# Altium integrated library Linear Technology Charge_Pump.IntLib: 599 symbols (part 16 of 29)
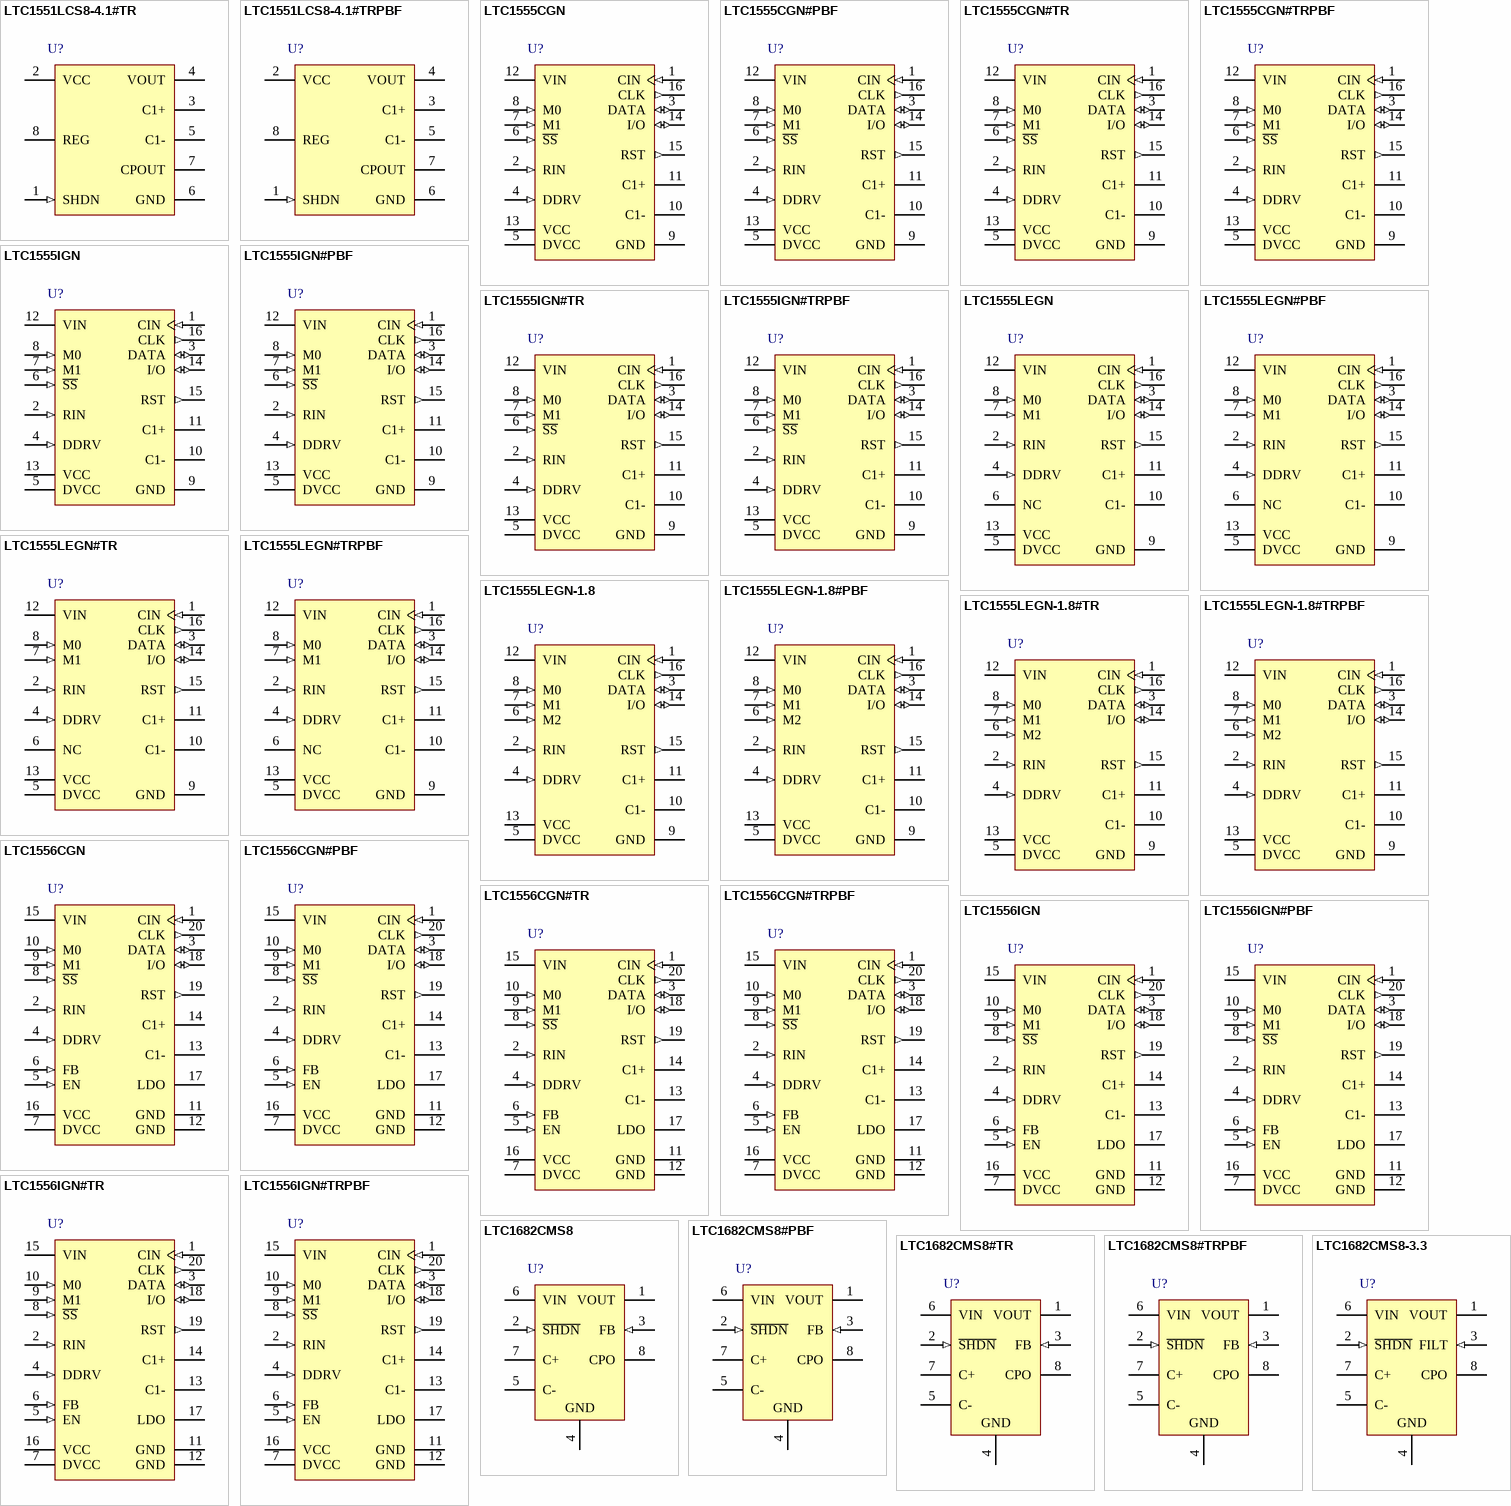
[diagram p31: symbols LTC1551LCS8-4.1#TR to LTC1682CMS8-3.3]

## LTC1555IGN#TRPBF
designator U?
SIM Power Supply and Level Translator, 2.7 to 10 V Vin, 5 V Vout, 16-pin SOP (GN-16), -40 to 85 degC, Pb-Free, Tape and Reel; Manufacturer: Linear Technology; PartNumber: LTC1555IGN#TRPBF; Frequency(kHz): 650; Isupply(mA): 0.06; Max Iout(mA): 20; Vin Max(V): 10; Vin Min(V): 2.7; Voutput: 5V; PackageVersion: Rev. B, 03/2012; PackageReference: GN-16; PackageDescription: 16-Pin Plastic SSOP, Body 4.9 x 3.9 mm, Pitch 0.635 mm; Supplier 1: Digi-Key; Supplier Part Number 1: LTC1555IGN#TRPBF-ND; Packing: Tape and Reel; RoHS: TRUE; Mounting Technology: Surface Mount; ComponentLink1Description: Manufacturer URL; ComponentLink1URL: http://www.linear.com/; ComponentLink2Description: Datasheet; ComponentLink2URL: http://cds.linear.com/docs/en/datasheet/15556f.pdf; ComponentLink3Description: Package Specification; ComponentLink3URL: http://cds.linear.com/docs/en/packaging/05081641_B_GN16.pdf
footprint LT-GN-16_N (SOP, 16-Leads, Body 5x4mm, Pitch 0.635mm, IPC Medium Density)
footprint LT-GN-16_L (SOP, 16-Leads, Body 5x4mm, Pitch 0.635mm, IPC High Density)
footprint LT-GN-16_M (SOP, 16-Leads, Body 5x4mm, Pitch 0.635mm, IPC Low Density)
pins: 1 CIN (in) "Clock Input Pin from Controller.", 2 RIN (in) "Reset Input Pin from Controller.", 3 DATA (io) "Controller Side Data Input/Output Pin. Can be used for single pin bidirectional data transfer between the controller and the SIM card as long as the controller data pin is open drain. The controller output must be able to (See Datasheet)", 4 DDRV (in) "Optional Data Input Pin for Sending Data to the SIM card. When not needed, the DDRV pin should be left floating or tied to DVCC (an internal 1mA current source will pull the DDRV pin up to DVCC if left floating).", 5 DVCC (power) "Supply Voltage for Controller Side Digital I/O Pins. May be between 1.8V and 5.5V (typically 3V).", 6 ~{SS} (in) "Soft Start Enable Pin. A logic low will enable the charge pump inrush current limiting feature. A logic high will disable the soft start feature and allow VCC to be ramped as quickly as possible upon start-up and coming out (See Datasheet)", 7 M1 (in) "Mode Control Bit 1 (see Truth Table).", 8 M0 (in) "Mode Control Bit 0 (see Truth Table).This table defines the various operating modes that maybe obtained via the M0 and M1 mode control pins", 9 GND (power) "Ground for Both the SIM and the Controller. Should be connected to the SIM GND contact as well as to the VIN/Controller GND. Proper grounding and supply bypassing is required to meet 10kV ESD specifications.", 10 C1- "Charge Pump Flying Capacitor Negative Input.", 11 C1+ "Charge Pump Flying Capacitor Positive Input.", 12 VIN (power) "Charge Pump Input Voltage Pin. Input voltage range is 2.7V to 10V. Connect a 10uF low ESR input bypass capacitor close to the VIN pin.", 13 VCC (power) "SIM Card VCC Output. This pin should be connected to the SIM VCC contact. The VCC output voltage is determined by the M0 and M1 pins (see Truth Table). VCC is discharged to GND during shutdown (M0, M1 = 0V). A 10uF low ESR (See Datasheet)", 14 I/O (io) "SIM Side I/O Pin. The pin is an open drain output with a nominal pull-up resistance of 10k and should be connected to the SIM I/O contact. The SIM card must sink up to 1mA max when driving the I/O pin low due to the internal (See Datasheet)", 15 RST (out) "Level Shifted Reset Output Pin. Should be connected to the SIM RST contact.", 16 CLK (out) "Level Shifted Clock Output Pin. Should be connected to the SIM CLK contact. Careful trace routing is recommended due to fast rise and fall edge speeds."

## LTC1555LEGN
designator U?
SIM Power Supply and Level Translator, 2.6 to 6 V Vin, 3 / 5 V Vout, 16-pin SOP (GN-16), -40 to 85 degC; Manufacturer: Linear Technology; PartNumber: LTC1555LEGN; Frequency(kHz): 1000; Isupply(mA): 0.035; Max Iout(mA): 20; Vin Max(V): 6; Vin Min(V): 2.6; Voutput: 3V, 5V; PackageVersion: Rev. B, 03/2012; PackageReference: GN-16; PackageDescription: 16-Pin Plastic SSOP, Body 4.9 x 3.9 mm, Pitch 0.635 mm; Supplier 1: Digi-Key; Supplier Part Number 1: LTC1555LEGN-ND; RoHS: FALSE; Mounting Technology: Surface Mount; ComponentLink1Description: Manufacturer URL; ComponentLink1URL: http://www.linear.com/; ComponentLink2Description: Datasheet; ComponentLink2URL: http://cds.linear.com/docs/en/datasheet/1555lf.pdf; ComponentLink3Description: Package Specification; ComponentLink3URL: http://cds.linear.com/docs/en/packaging/05081641_B_GN16.pdf
footprint LT-GN-16_N (SOP, 16-Leads, Body 5x4mm, Pitch 0.635mm, IPC Medium Density)
footprint LT-GN-16_L (SOP, 16-Leads, Body 5x4mm, Pitch 0.635mm, IPC High Density)
footprint LT-GN-16_M (SOP, 16-Leads, Body 5x4mm, Pitch 0.635mm, IPC Low Density)
pins: 1 CIN (in) "Clock Input Pin from Controller.", 2 RIN (in) "Reset Input Pin from Controller.", 3 DATA (io) "Controller Side Data Input/Output Pin. Can be used for single pin bidirectional data transfer between the controller and the SIM card as long as the controller data pin is open drain. The controller output must be able to (See Datasheet)", 4 DDRV (in) "Optional Data Input Pin for Sending Data to the SIM card. When not needed, the DDRV pin should be left floating or tied to DVCC (an internal 1uA current source will pull the DDRV pin up to DVCC if left floating).", 5 DVCC (power) "Supply Voltage for Controller Side Digital Input/Output Pins (typically 3V). May be between 1.425V and 4.4V. The DVCC supply may be powered down in shutdown for further reduction in battery current. When DVCC drops below 1.(See Datasheet)", 6 NC "No Internal Connection.", 7 M1 (in) "Mode Control Bit 1 (see Table 1).", 8 M0 (in) "Mode Control Bit 0 (see Table 1).", 9 GND (power) "Ground for Both the SIM and the Controller. Should be connected to the SIM GND contact as well as to the VIN/Controller GND. Proper grounding and supply bypassing is required to meet 15kV ESD specifications.", 10 C1- "Charge Pump Flying Capacitor Negative Input.", 11 C1+ "Charge Pump Flying Capacitor Positive Input.", 12 VIN (power) "Charge Pump Input Pin. May be between 2.6V and 6V. There is no power-up sequencing requirement for VIN with respect to DVCC.", 13 VCC (power) "SIM Card VCC Output. Should be connected to the SIM VCC contact. The VCC output voltage is determined by the M0-M1 pins (see Table 1). VCC is discharged to GND during shutdown (M0, M1 = 0V). A 2.2uF low ESR ouptut capacitor (See Datasheet)", 14 I/O (io) "SIM Side I/O Pin. The pin is an open drain output with a nominal pull-up resistance of 10kohm and should be connected to the SIM I/O contact. The SIM card must sink up to 1mA max when driving the I/O pin low due to the (See Datasheet)", 15 RST (out) "Level Shifted Reset Output Pin. Should be connected to the SIM RST contact.", 16 CLK (out) "Level Shifted Clock Output Pin. Should be connected to the SIM CLK contact. Careful trace routing is recommended due to fast rise and fall edge speeds."

## LTC1555LEGN#PBF
designator U?
SIM Power Supply and Level Translator, 2.6 to 6 V Vin, 3 / 5 V Vout, 16-pin SOP (GN-16), -40 to 85 degC, Pb-Free; Manufacturer: Linear Technology; PartNumber: LTC1555LEGN#PBF; Frequency(kHz): 1000; Isupply(mA): 0.035; Max Iout(mA): 20; Vin Max(V): 6; Vin Min(V): 2.6; Voutput: 3V, 5V; PackageVersion: Rev. B, 03/2012; PackageReference: GN-16; PackageDescription: 16-Pin Plastic SSOP, Body 4.9 x 3.9 mm, Pitch 0.635 mm; Supplier 1: Digi-Key; Supplier Part Number 1: LTC1555LEGN#PBF-ND; RoHS: TRUE; Mounting Technology: Surface Mount; ComponentLink1Description: Manufacturer URL; ComponentLink1URL: http://www.linear.com/; ComponentLink2Description: Datasheet; ComponentLink2URL: http://cds.linear.com/docs/en/datasheet/1555lf.pdf; ComponentLink3Description: Package Specification; ComponentLink3URL: http://cds.linear.com/docs/en/packaging/05081641_B_GN16.pdf
footprint LT-GN-16_N (SOP, 16-Leads, Body 5x4mm, Pitch 0.635mm, IPC Medium Density)
footprint LT-GN-16_L (SOP, 16-Leads, Body 5x4mm, Pitch 0.635mm, IPC High Density)
footprint LT-GN-16_M (SOP, 16-Leads, Body 5x4mm, Pitch 0.635mm, IPC Low Density)
pins: 1 CIN (in) "Clock Input Pin from Controller.", 2 RIN (in) "Reset Input Pin from Controller.", 3 DATA (io) "Controller Side Data Input/Output Pin. Can be used for single pin bidirectional data transfer between the controller and the SIM card as long as the controller data pin is open drain. The controller output must be able to (See Datasheet)", 4 DDRV (in) "Optional Data Input Pin for Sending Data to the SIM card. When not needed, the DDRV pin should be left floating or tied to DVCC (an internal 1uA current source will pull the DDRV pin up to DVCC if left floating).", 5 DVCC (power) "Supply Voltage for Controller Side Digital Input/Output Pins (typically 3V). May be between 1.425V and 4.4V. The DVCC supply may be powered down in shutdown for further reduction in battery current. When DVCC drops below 1.(See Datasheet)", 6 NC "No Internal Connection.", 7 M1 (in) "Mode Control Bit 1 (see Table 1).", 8 M0 (in) "Mode Control Bit 0 (see Table 1).", 9 GND (power) "Ground for Both the SIM and the Controller. Should be connected to the SIM GND contact as well as to the VIN/Controller GND. Proper grounding and supply bypassing is required to meet 15kV ESD specifications.", 10 C1- "Charge Pump Flying Capacitor Negative Input.", 11 C1+ "Charge Pump Flying Capacitor Positive Input.", 12 VIN (power) "Charge Pump Input Pin. May be between 2.6V and 6V. There is no power-up sequencing requirement for VIN with respect to DVCC.", 13 VCC (power) "SIM Card VCC Output. Should be connected to the SIM VCC contact. The VCC output voltage is determined by the M0-M1 pins (see Table 1). VCC is discharged to GND during shutdown (M0, M1 = 0V). A 2.2uF low ESR ouptut capacitor (See Datasheet)", 14 I/O (io) "SIM Side I/O Pin. The pin is an open drain output with a nominal pull-up resistance of 10kohm and should be connected to the SIM I/O contact. The SIM card must sink up to 1mA max when driving the I/O pin low due to the (See Datasheet)", 15 RST (out) "Level Shifted Reset Output Pin. Should be connected to the SIM RST contact.", 16 CLK (out) "Level Shifted Clock Output Pin. Should be connected to the SIM CLK contact. Careful trace routing is recommended due to fast rise and fall edge speeds."

## LTC1555LEGN#TR
designator U?
SIM Power Supply and Level Translator, 2.6 to 6 V Vin, 3 / 5 V Vout, 16-pin SOP (GN-16), -40 to 85 degC, Tape and Reel; Manufacturer: Linear Technology; PartNumber: LTC1555LEGN#TR; Frequency(kHz): 1000; Isupply(mA): 0.035; Max Iout(mA): 20; Vin Max(V): 6; Vin Min(V): 2.6; Voutput: 3V, 5V; PackageVersion: Rev. B, 03/2012; PackageReference: GN-16; PackageDescription: 16-Pin Plastic SSOP, Body 4.9 x 3.9 mm, Pitch 0.635 mm; Supplier 1: Digi-Key; Supplier Part Number 1: LTC1555LEGN#TR-ND; Packing: Tape and Reel; RoHS: FALSE; Mounting Technology: Surface Mount; ComponentLink1Description: Manufacturer URL; ComponentLink1URL: http://www.linear.com/; ComponentLink2Description: Datasheet; ComponentLink2URL: http://cds.linear.com/docs/en/datasheet/1555lf.pdf; ComponentLink3Description: Package Specification; ComponentLink3URL: http://cds.linear.com/docs/en/packaging/05081641_B_GN16.pdf
footprint LT-GN-16_N (SOP, 16-Leads, Body 5x4mm, Pitch 0.635mm, IPC Medium Density)
footprint LT-GN-16_L (SOP, 16-Leads, Body 5x4mm, Pitch 0.635mm, IPC High Density)
footprint LT-GN-16_M (SOP, 16-Leads, Body 5x4mm, Pitch 0.635mm, IPC Low Density)
pins: 1 CIN (in) "Clock Input Pin from Controller.", 2 RIN (in) "Reset Input Pin from Controller.", 3 DATA (io) "Controller Side Data Input/Output Pin. Can be used for single pin bidirectional data transfer between the controller and the SIM card as long as the controller data pin is open drain. The controller output must be able to (See Datasheet)", 4 DDRV (in) "Optional Data Input Pin for Sending Data to the SIM card. When not needed, the DDRV pin should be left floating or tied to DVCC (an internal 1uA current source will pull the DDRV pin up to DVCC if left floating).", 5 DVCC (power) "Supply Voltage for Controller Side Digital Input/Output Pins (typically 3V). May be between 1.425V and 4.4V. The DVCC supply may be powered down in shutdown for further reduction in battery current. When DVCC drops below 1.(See Datasheet)", 6 NC "No Internal Connection.", 7 M1 (in) "Mode Control Bit 1 (see Table 1).", 8 M0 (in) "Mode Control Bit 0 (see Table 1).", 9 GND (power) "Ground for Both the SIM and the Controller. Should be connected to the SIM GND contact as well as to the VIN/Controller GND. Proper grounding and supply bypassing is required to meet 15kV ESD specifications.", 10 C1- "Charge Pump Flying Capacitor Negative Input.", 11 C1+ "Charge Pump Flying Capacitor Positive Input.", 12 VIN (power) "Charge Pump Input Pin. May be between 2.6V and 6V. There is no power-up sequencing requirement for VIN with respect to DVCC.", 13 VCC (power) "SIM Card VCC Output. Should be connected to the SIM VCC contact. The VCC output voltage is determined by the M0-M1 pins (see Table 1). VCC is discharged to GND during shutdown (M0, M1 = 0V). A 2.2uF low ESR ouptut capacitor (See Datasheet)", 14 I/O (io) "SIM Side I/O Pin. The pin is an open drain output with a nominal pull-up resistance of 10kohm and should be connected to the SIM I/O contact. The SIM card must sink up to 1mA max when driving the I/O pin low due to the (See Datasheet)", 15 RST (out) "Level Shifted Reset Output Pin. Should be connected to the SIM RST contact.", 16 CLK (out) "Level Shifted Clock Output Pin. Should be connected to the SIM CLK contact. Careful trace routing is recommended due to fast rise and fall edge speeds."

## LTC1555LEGN#TRPBF
designator U?
SIM Power Supply and Level Translator, 2.6 to 6 V Vin, 3 / 5 V Vout, 16-pin SOP (GN-16), -40 to 85 degC, Pb-Free, Tape and Reel; Manufacturer: Linear Technology; PartNumber: LTC1555LEGN#TRPBF; Frequency(kHz): 1000; Isupply(mA): 0.035; Max Iout(mA): 20; Vin Max(V): 6; Vin Min(V): 2.6; Voutput: 3V, 5V; PackageVersion: Rev. B, 03/2012; PackageReference: GN-16; PackageDescription: 16-Pin Plastic SSOP, Body 4.9 x 3.9 mm, Pitch 0.635 mm; Supplier 1: Digi-Key; Supplier Part Number 1: LTC1555LEGN#TRPBF-ND; Packing: Tape and Reel; RoHS: TRUE; Mounting Technology: Surface Mount; ComponentLink1Description: Manufacturer URL; ComponentLink1URL: http://www.linear.com/; ComponentLink2Description: Datasheet; ComponentLink2URL: http://cds.linear.com/docs/en/datasheet/1555lf.pdf; ComponentLink3Description: Package Specification; ComponentLink3URL: http://cds.linear.com/docs/en/packaging/05081641_B_GN16.pdf
footprint LT-GN-16_N (SOP, 16-Leads, Body 5x4mm, Pitch 0.635mm, IPC Medium Density)
footprint LT-GN-16_L (SOP, 16-Leads, Body 5x4mm, Pitch 0.635mm, IPC High Density)
footprint LT-GN-16_M (SOP, 16-Leads, Body 5x4mm, Pitch 0.635mm, IPC Low Density)
pins: 1 CIN (in) "Clock Input Pin from Controller.", 2 RIN (in) "Reset Input Pin from Controller.", 3 DATA (io) "Controller Side Data Input/Output Pin. Can be used for single pin bidirectional data transfer between the controller and the SIM card as long as the controller data pin is open drain. The controller output must be able to (See Datasheet)", 4 DDRV (in) "Optional Data Input Pin for Sending Data to the SIM card. When not needed, the DDRV pin should be left floating or tied to DVCC (an internal 1uA current source will pull the DDRV pin up to DVCC if left floating).", 5 DVCC (power) "Supply Voltage for Controller Side Digital Input/Output Pins (typically 3V). May be between 1.425V and 4.4V. The DVCC supply may be powered down in shutdown for further reduction in battery current. When DVCC drops below 1.(See Datasheet)", 6 NC "No Internal Connection.", 7 M1 (in) "Mode Control Bit 1 (see Table 1).", 8 M0 (in) "Mode Control Bit 0 (see Table 1).", 9 GND (power) "Ground for Both the SIM and the Controller. Should be connected to the SIM GND contact as well as to the VIN/Controller GND. Proper grounding and supply bypassing is required to meet 15kV ESD specifications.", 10 C1- "Charge Pump Flying Capacitor Negative Input.", 11 C1+ "Charge Pump Flying Capacitor Positive Input.", 12 VIN (power) "Charge Pump Input Pin. May be between 2.6V and 6V. There is no power-up sequencing requirement for VIN with respect to DVCC.", 13 VCC (power) "SIM Card VCC Output. Should be connected to the SIM VCC contact. The VCC output voltage is determined by the M0-M1 pins (see Table 1). VCC is discharged to GND during shutdown (M0, M1 = 0V). A 2.2uF low ESR ouptut capacitor (See Datasheet)", 14 I/O (io) "SIM Side I/O Pin. The pin is an open drain output with a nominal pull-up resistance of 10kohm and should be connected to the SIM I/O contact. The SIM card must sink up to 1mA max when driving the I/O pin low due to the (See Datasheet)", 15 RST (out) "Level Shifted Reset Output Pin. Should be connected to the SIM RST contact.", 16 CLK (out) "Level Shifted Clock Output Pin. Should be connected to the SIM CLK contact. Careful trace routing is recommended due to fast rise and fall edge speeds."

## LTC1555LEGN-1.8
designator U?
SIM Power Supply and Level Translator, 2.6 to 6 V Vin, 1.8 V Vout, 16-pin SOP (GN-16), -40 to 85 degC; Manufacturer: Linear Technology; PartNumber: LTC1555LEGN-1.8; Frequency(kHz): 1000; Isupply(mA): 0.032; Max Iout(mA): 20; Vin Max(V): 6; Vin Min(V): 2.6; Voutput: 1.8V; PackageVersion: Rev. B, 03/2012; PackageReference: GN-16; PackageDescription: 16-Pin Plastic SSOP, Body 4.9 x 3.9 mm, Pitch 0.635 mm; Supplier 1: Digi-Key; Supplier Part Number 1: LTC1555LEGN-1.8-ND; RoHS: FALSE; Mounting Technology: Surface Mount; ComponentLink1Description: Manufacturer URL; ComponentLink1URL: http://www.linear.com/; ComponentLink2Description: Datasheet; ComponentLink2URL: http://cds.linear.com/docs/en/datasheet/1555l18f.pdf; ComponentLink3Description: Package Specification; ComponentLink3URL: http://cds.linear.com/docs/en/packaging/05081641_B_GN16.pdf
footprint LT-GN-16_N (SOP, 16-Leads, Body 5x4mm, Pitch 0.635mm, IPC Medium Density)
footprint LT-GN-16_L (SOP, 16-Leads, Body 5x4mm, Pitch 0.635mm, IPC High Density)
footprint LT-GN-16_M (SOP, 16-Leads, Body 5x4mm, Pitch 0.635mm, IPC Low Density)
pins: 1 CIN (in) "Clock Input Pin from Controller.", 2 RIN (in) "Reset Input Pin from Controller.", 3 DATA (io) "Controller Side Data Input/Output Pin. Can be used for single pin bidirectional data transfer between the controller and the SIM card as long as the controller data pin is open drain. The controller output must be able to (See Datasheet)", 4 DDRV (in) "Optional Data Input Pin for Sending Data to the SIM card. When not needed, the DDRV pin should be left floating or tied to DVCC (an internal 1uA current source will pull the DDRV pin up to DVCC if left floating).", 5 DVCC (power) "Supply Voltage for Controller Side Digital Input/Output Pins (typically 3V). May be between 1.425V and 4.4V. The DVCC supply may be powered down in shutdown for further reduction in battery current. When DVCC drops below 1.(See Datasheet)", 6 M2 (in) "Mode Control Bit 2 (see Table 1). (Pin 6 was previously used for soft-start control on the LTC1555.)", 7 M1 (in) "Mode Control Bit 1 (see Table 1).", 8 M0 (in) "Mode Control Bit 0 (see Table 1).", 9 GND (power) "Ground for Both the SIM and the Controller. Should be connected to the SIM GND contact as well as to the VIN/Controller GND. Proper grounding and supply bypassing is required to meet 10kV ESD specifications.", 10 C1- "Charge Pump Flying Capacitor Negative Input.", 11 C1+ "Charge Pump Flying Capacitor Positive Input.", 12 VIN (power) "Charge Pump Input Pin. May be between 2.6V and 6V. There is no power-up sequencing requirement for VIN with respect to DVCC.", 13 VCC (power) "SIM Card VCC Output. Should be connected to the SIM VCC contact. The VCC output voltage is determined by the M0-M2 pins (see Table 1). VCC is discharged to GND during shutdown (M0, M1 = 0V). A 2.2uF low ESR ouptut capacitor (See Datasheet)", 14 I/O (io) "SIM Side I/O Pin. The pin is an open drain output with a nominal pull-up resistance of 10kohm and should be connected to the SIM I/O contact. The SIM card must sink up to 1mA max when driving the I/O pin low due to the (See Datasheet)", 15 RST (out) "Level Shifted Reset Output Pin. Should be connected to the SIM RST contact.", 16 CLK (out) "Level Shifted Clock Output Pin. Should be connected to the SIM CLK contact. Careful trace routing is recommended due to fast rise and fall edge speeds."

## LTC1555LEGN-1.8#PBF
designator U?
SIM Power Supply and Level Translator, 2.6 to 6 V Vin, 1.8 V Vout, 16-pin SOP (GN-16), -40 to 85 degC, Pb-Free; Manufacturer: Linear Technology; PartNumber: LTC1555LEGN-1.8#PBF; Frequency(kHz): 1000; Isupply(mA): 0.032; Max Iout(mA): 20; Vin Max(V): 6; Vin Min(V): 2.6; Voutput: 1.8V; PackageVersion: Rev. B, 03/2012; PackageReference: GN-16; PackageDescription: 16-Pin Plastic SSOP, Body 4.9 x 3.9 mm, Pitch 0.635 mm; Supplier 1: Digi-Key; Supplier Part Number 1: LTC1555LEGN-1.8#PBF-ND; Supplier 2: Farnell; Supplier Part Number 2: 2115868; Supplier 3: Newark; Supplier Part Number 3: 56M2062; RoHS: TRUE; Mounting Technology: Surface Mount; ComponentLink1Description: Manufacturer URL; ComponentLink1URL: http://www.linear.com/; ComponentLink2Description: Datasheet; ComponentLink2URL: http://cds.linear.com/docs/en/datasheet/1555l18f.pdf; ComponentLink3Description: Package Specification; ComponentLink3URL: http://cds.linear.com/docs/en/packaging/05081641_B_GN16.pdf
footprint LT-GN-16_N (SOP, 16-Leads, Body 5x4mm, Pitch 0.635mm, IPC Medium Density)
footprint LT-GN-16_L (SOP, 16-Leads, Body 5x4mm, Pitch 0.635mm, IPC High Density)
footprint LT-GN-16_M (SOP, 16-Leads, Body 5x4mm, Pitch 0.635mm, IPC Low Density)
pins: 1 CIN (in) "Clock Input Pin from Controller.", 2 RIN (in) "Reset Input Pin from Controller.", 3 DATA (io) "Controller Side Data Input/Output Pin. Can be used for single pin bidirectional data transfer between the controller and the SIM card as long as the controller data pin is open drain. The controller output must be able to (See Datasheet)", 4 DDRV (in) "Optional Data Input Pin for Sending Data to the SIM card. When not needed, the DDRV pin should be left floating or tied to DVCC (an internal 1uA current source will pull the DDRV pin up to DVCC if left floating).", 5 DVCC (power) "Supply Voltage for Controller Side Digital Input/Output Pins (typically 3V). May be between 1.425V and 4.4V. The DVCC supply may be powered down in shutdown for further reduction in battery current. When DVCC drops below 1.(See Datasheet)", 6 M2 (in) "Mode Control Bit 2 (see Table 1). (Pin 6 was previously used for soft-start control on the LTC1555.)", 7 M1 (in) "Mode Control Bit 1 (see Table 1).", 8 M0 (in) "Mode Control Bit 0 (see Table 1).", 9 GND (power) "Ground for Both the SIM and the Controller. Should be connected to the SIM GND contact as well as to the VIN/Controller GND. Proper grounding and supply bypassing is required to meet 10kV ESD specifications.", 10 C1- "Charge Pump Flying Capacitor Negative Input.", 11 C1+ "Charge Pump Flying Capacitor Positive Input.", 12 VIN (power) "Charge Pump Input Pin. May be between 2.6V and 6V. There is no power-up sequencing requirement for VIN with respect to DVCC.", 13 VCC (power) "SIM Card VCC Output. Should be connected to the SIM VCC contact. The VCC output voltage is determined by the M0-M2 pins (see Table 1). VCC is discharged to GND during shutdown (M0, M1 = 0V). A 2.2uF low ESR ouptut capacitor (See Datasheet)", 14 I/O (io) "SIM Side I/O Pin. The pin is an open drain output with a nominal pull-up resistance of 10kohm and should be connected to the SIM I/O contact. The SIM card must sink up to 1mA max when driving the I/O pin low due to the (See Datasheet)", 15 RST (out) "Level Shifted Reset Output Pin. Should be connected to the SIM RST contact.", 16 CLK (out) "Level Shifted Clock Output Pin. Should be connected to the SIM CLK contact. Careful trace routing is recommended due to fast rise and fall edge speeds."

## LTC1555LEGN-1.8#TR
designator U?
SIM Power Supply and Level Translator, 2.6 to 6 V Vin, 1.8 V Vout, 16-pin SOP (GN-16), -40 to 85 degC, Tape and Reel; Manufacturer: Linear Technology; PartNumber: LTC1555LEGN-1.8#TR; Frequency(kHz): 1000; Isupply(mA): 0.035; Max Iout(mA): 20; Vin Max(V): 6; Vin Min(V): 2.6; Voutput: 1.8V; PackageVersion: Rev. B, 03/2012; PackageReference: GN-16; PackageDescription: 16-Pin Plastic SSOP, Body 4.9 x 3.9 mm, Pitch 0.635 mm; Supplier 1: Digi-Key; Supplier Part Number 1: LTC1555LEGN-1.8TR-ND; Packing: Tape and Reel; RoHS: FALSE; Mounting Technology: Surface Mount; ComponentLink1Description: Manufacturer URL; ComponentLink1URL: http://www.linear.com/; ComponentLink2Description: Datasheet; ComponentLink2URL: http://cds.linear.com/docs/en/datasheet/1555l18f.pdf; ComponentLink3Description: Package Specification; ComponentLink3URL: http://cds.linear.com/docs/en/packaging/05081641_B_GN16.pdf
footprint LT-GN-16_N (SOP, 16-Leads, Body 5x4mm, Pitch 0.635mm, IPC Medium Density)
footprint LT-GN-16_L (SOP, 16-Leads, Body 5x4mm, Pitch 0.635mm, IPC High Density)
footprint LT-GN-16_M (SOP, 16-Leads, Body 5x4mm, Pitch 0.635mm, IPC Low Density)
pins: 1 CIN (in) "Clock Input Pin from Controller.", 2 RIN (in) "Reset Input Pin from Controller.", 3 DATA (io) "Controller Side Data Input/Output Pin. Can be used for single pin bidirectional data transfer between the controller and the SIM card as long as the controller data pin is open drain. The controller output must be able to (See Datasheet)", 4 DDRV (in) "Optional Data Input Pin for Sending Data to the SIM card. When not needed, the DDRV pin should be left floating or tied to DVCC (an internal 1uA current source will pull the DDRV pin up to DVCC if left floating).", 5 DVCC (power) "Supply Voltage for Controller Side Digital Input/Output Pins (typically 3V). May be between 1.425V and 4.4V. The DVCC supply may be powered down in shutdown for further reduction in battery current. When DVCC drops below 1.(See Datasheet)", 6 M2 (in) "Mode Control Bit 2 (see Table 1). (Pin 6 was previously used for soft-start control on the LTC1555.)", 7 M1 (in) "Mode Control Bit 1 (see Table 1).", 8 M0 (in) "Mode Control Bit 0 (see Table 1).", 9 GND (power) "Ground for Both the SIM and the Controller. Should be connected to the SIM GND contact as well as to the VIN/Controller GND. Proper grounding and supply bypassing is required to meet 10kV ESD specifications.", 10 C1- "Charge Pump Flying Capacitor Negative Input.", 11 C1+ "Charge Pump Flying Capacitor Positive Input.", 12 VIN (power) "Charge Pump Input Pin. May be between 2.6V and 6V. There is no power-up sequencing requirement for VIN with respect to DVCC.", 13 VCC (power) "SIM Card VCC Output. Should be connected to the SIM VCC contact. The VCC output voltage is determined by the M0-M2 pins (see Table 1). VCC is discharged to GND during shutdown (M0, M1 = 0V). A 2.2uF low ESR ouptut capacitor (See Datasheet)", 14 I/O (io) "SIM Side I/O Pin. The pin is an open drain output with a nominal pull-up resistance of 10kohm and should be connected to the SIM I/O contact. The SIM card must sink up to 1mA max when driving the I/O pin low due to the (See Datasheet)", 15 RST (out) "Level Shifted Reset Output Pin. Should be connected to the SIM RST contact.", 16 CLK (out) "Level Shifted Clock Output Pin. Should be connected to the SIM CLK contact. Careful trace routing is recommended due to fast rise and fall edge speeds."

## LTC1555LEGN-1.8#TRPBF
designator U?
SIM Power Supply and Level Translator, 2.6 to 6 V Vin, 1.8 V Vout, 16-pin SOP (GN-16), -40 to 85 degC, Pb-Free, Tape and Reel; Manufacturer: Linear Technology; PartNumber: LTC1555LEGN-1.8#TRPBF; Frequency(kHz): 1000; Isupply(mA): 0.035; Max Iout(mA): 20; Vin Max(V): 6; Vin Min(V): 2.6; Voutput: 1.8V; PackageVersion: Rev. B, 03/2012; PackageReference: GN-16; PackageDescription: 16-Pin Plastic SSOP, Body 4.9 x 3.9 mm, Pitch 0.635 mm; Supplier 1: Digi-Key; Supplier Part Number 1: LTC1555LEGN-1.8#TRPBF-ND; Supplier 2: Newark; Supplier Part Number 2: 56M2064; Packing: Tape and Reel; RoHS: TRUE; Mounting Technology: Surface Mount; ComponentLink1Description: Manufacturer URL; ComponentLink1URL: http://www.linear.com/; ComponentLink2Description: Datasheet; ComponentLink2URL: http://cds.linear.com/docs/en/datasheet/1555l18f.pdf; ComponentLink3Description: Package Specification; ComponentLink3URL: http://cds.linear.com/docs/en/packaging/05081641_B_GN16.pdf
footprint LT-GN-16_N (SOP, 16-Leads, Body 5x4mm, Pitch 0.635mm, IPC Medium Density)
footprint LT-GN-16_L (SOP, 16-Leads, Body 5x4mm, Pitch 0.635mm, IPC High Density)
footprint LT-GN-16_M (SOP, 16-Leads, Body 5x4mm, Pitch 0.635mm, IPC Low Density)
pins: 1 CIN (in) "Clock Input Pin from Controller.", 2 RIN (in) "Reset Input Pin from Controller.", 3 DATA (io) "Controller Side Data Input/Output Pin. Can be used for single pin bidirectional data transfer between the controller and the SIM card as long as the controller data pin is open drain. The controller output must be able to (See Datasheet)", 4 DDRV (in) "Optional Data Input Pin for Sending Data to the SIM card. When not needed, the DDRV pin should be left floating or tied to DVCC (an internal 1uA current source will pull the DDRV pin up to DVCC if left floating).", 5 DVCC (power) "Supply Voltage for Controller Side Digital Input/Output Pins (typically 3V). May be between 1.425V and 4.4V. The DVCC supply may be powered down in shutdown for further reduction in battery current. When DVCC drops below 1.(See Datasheet)", 6 M2 (in) "Mode Control Bit 2 (see Table 1). (Pin 6 was previously used for soft-start control on the LTC1555.)", 7 M1 (in) "Mode Control Bit 1 (see Table 1).", 8 M0 (in) "Mode Control Bit 0 (see Table 1).", 9 GND (power) "Ground for Both the SIM and the Controller. Should be connected to the SIM GND contact as well as to the VIN/Controller GND. Proper grounding and supply bypassing is required to meet 10kV ESD specifications.", 10 C1- "Charge Pump Flying Capacitor Negative Input.", 11 C1+ "Charge Pump Flying Capacitor Positive Input.", 12 VIN (power) "Charge Pump Input Pin. May be between 2.6V and 6V. There is no power-up sequencing requirement for VIN with respect to DVCC.", 13 VCC (power) "SIM Card VCC Output. Should be connected to the SIM VCC contact. The VCC output voltage is determined by the M0-M2 pins (see Table 1). VCC is discharged to GND during shutdown (M0, M1 = 0V). A 2.2uF low ESR ouptut capacitor (See Datasheet)", 14 I/O (io) "SIM Side I/O Pin. The pin is an open drain output with a nominal pull-up resistance of 10kohm and should be connected to the SIM I/O contact. The SIM card must sink up to 1mA max when driving the I/O pin low due to the (See Datasheet)", 15 RST (out) "Level Shifted Reset Output Pin. Should be connected to the SIM RST contact.", 16 CLK (out) "Level Shifted Clock Output Pin. Should be connected to the SIM CLK contact. Careful trace routing is recommended due to fast rise and fall edge speeds."

## LTC1556CGN
designator U?
SIM Power Supply and Level Translator, 2.7 to 10 V Vin, 5 V Vout, 20-pin SOP (GN-20), 0 to 70 degC; Manufacturer: Linear Technology; PartNumber: LTC1556CGN; Frequency(kHz): 650; Isupply(mA): 0.06; Max Iout(mA): 20; Vin Max(V): 10; Vin Min(V): 2.7; Voutput: 5V; PackageVersion: Rev. B, 03/2012; PackageReference: GN-20; PackageDescription: 20-Pin Plastic SSOP, Body 8.649 x 3.899 mm, Pitch 0.635 mm; Supplier 1: Digi-Key; Supplier Part Number 1: LTC1556CGN-ND; RoHS: FALSE; Mounting Technology: Surface Mount; ComponentLink1Description: Manufacturer URL; ComponentLink1URL: http://www.linear.com/; ComponentLink2Description: Datasheet; ComponentLink2URL: http://cds.linear.com/docs/en/datasheet/15556f.pdf; ComponentLink3Description: Package Specification; ComponentLink3URL: http://cds.linear.com/docs/en/packaging/05081641_B_GN20.pdf
footprint LT-GN-20_N (SOP, 20-Leads, Body 8.7x4mm, Pitch 0.635mm, IPC Medium Density)
footprint LT-GN-20_L (SOP, 20-Leads, Body 8.7x4mm, Pitch 0.635mm, IPC High Density)
footprint LT-GN-20_M (SOP, 20-Leads, Body 8.7x4mm, Pitch 0.635mm, IPC Low Density)
pins: 1 CIN (in) "Clock Input Pin from Controller.", 2 RIN (in) "Reset Input Pin from Controller.", 3 DATA (io) "Controller Side Data Input/Output Pin. Can be used for single pin bidirectional data transfer between the controller and the SIM card as long as the controller data pin is open drain. The controller output must be able to (See Datasheet)", 4 DDRV (in) "Optional Data Input Pin for Sending Data to the SIM card. When not needed, the DDRV pin should be left floating or tied to DVCC (an internal 1mA current source will pull the DDRV pin up to DVCC if left floating).", 5 EN (in) "Auxiliary LDO/Power Switch Enable Pin. A logic high on this pin from the controller will enable the auxiliary LDO output. When the LDO is disabled, the LDO output will float or be pulled to ground by the load. If left (See Datasheet)", 6 FB (in) "Auxiliary LDO Feedback Pin. When FB is connected to the LDO pin (Pin 17), the LDO output is regulated to 4.3V (typ). If the FB pin is left open or tied to ground, the regulator acts as a =<30W switch between VCC and LDO.", 7 DVCC (power) "Supply Voltage for Controller Side Digital I/O Pins. May be between 1.8V and 5.5V (typically 3V).", 8 ~{SS} (in) "Soft Start Enable Pin. A logic low will enable the charge pump inrush current limiting feature. A logic high will disable the soft start feature and allow VCC to be ramped as quickly as possible upon start-up and coming out (See Datasheet)", 9 M1 (in) "Mode Control Bit 1 (see Truth Table).", 10 M0 (in) "Mode Control Bit 0 (see Truth Table).", 11 GND (power) "Ground for Both the SIM and the Controller. Should be connected to the SIM GND contact as well as to the VIN/Controller GND. Proper grounding and supply bypassing is required to meet 10kV ESD specifications.", 12 GND (power) "Ground for Both the SIM and the Controller. Should be connected to the SIM GND contact as well as to the VIN/Controller GND. Proper grounding and supply bypassing is required to meet 10kV ESD specifications.", 13 C1- "Charge Pump Flying Capacitor Negative Input.", 14 C1+ "Charge Pump Flying Capacitor Positive Input.", 15 VIN (power) "Charge Pump Input Voltage Pin. Input voltage range is 2.7V to 10V. Connect a 10uF low ESR input bypass capacitor close to the VIN pin.", 16 VCC (power) "SIM Card VCC Output. This pin should be connected to the SIM VCC contact. The VCC output voltage is determined by the M0 and M1 pins (see Truth Table). VCC is discharged to GND during shutdown (M0, M1 = 0V). A 10uF low ESR (See Datasheet)", 17 LDO (power) "LDO Output Pin. This pin should be tied to the FB pin for 4.3V LDO operation. The 4.3V LDO output is usable only when VCC is 5V (or greater). It is not available when VCC = 3V. The LDO output may also be used as a =<30W (See Datasheet)", 18 I/O (io) "SIM Side I/O Pin. The pin is an open drain output with a nominal pull-up resistance of 10k and should be connected to the SIM I/O contact. The SIM card must sink up to 1mA max when driving the I/O pin low due to the internal (See Datasheet)", 19 RST (out) "Level Shifted Reset Output Pin. Should be connected to the SIM RST contact.", 20 CLK (out) "Level Shifted Clock Output Pin. Should be connected to the SIM CLK contact. Careful trace routing is recommended due to fast rise and fall edge speeds."

## LTC1556CGN#PBF
designator U?
SIM Power Supply and Level Translator, 2.7 to 10 V Vin, 5 V Vout, 20-pin SOP (GN-20), 0 to 70 degC, Pb-Free; Manufacturer: Linear Technology; PartNumber: LTC1556CGN#PBF; Frequency(kHz): 650; Isupply(mA): 0.06; Max Iout(mA): 20; Vin Max(V): 10; Vin Min(V): 2.7; Voutput: 5V; PackageVersion: Rev. B, 03/2012; PackageReference: GN-20; PackageDescription: 20-Pin Plastic SSOP, Body 8.649 x 3.899 mm, Pitch 0.635 mm; Supplier 1: Digi-Key; Supplier Part Number 1: LTC1556CGN#PBF-ND; RoHS: TRUE; Mounting Technology: Surface Mount; ComponentLink1Description: Manufacturer URL; ComponentLink1URL: http://www.linear.com/; ComponentLink2Description: Datasheet; ComponentLink2URL: http://cds.linear.com/docs/en/datasheet/15556f.pdf; ComponentLink3Description: Package Specification; ComponentLink3URL: http://cds.linear.com/docs/en/packaging/05081641_B_GN20.pdf
footprint LT-GN-20_N (SOP, 20-Leads, Body 8.7x4mm, Pitch 0.635mm, IPC Medium Density)
footprint LT-GN-20_L (SOP, 20-Leads, Body 8.7x4mm, Pitch 0.635mm, IPC High Density)
footprint LT-GN-20_M (SOP, 20-Leads, Body 8.7x4mm, Pitch 0.635mm, IPC Low Density)
pins: 1 CIN (in) "Clock Input Pin from Controller.", 2 RIN (in) "Reset Input Pin from Controller.", 3 DATA (io) "Controller Side Data Input/Output Pin. Can be used for single pin bidirectional data transfer between the controller and the SIM card as long as the controller data pin is open drain. The controller output must be able to (See Datasheet)", 4 DDRV (in) "Optional Data Input Pin for Sending Data to the SIM card. When not needed, the DDRV pin should be left floating or tied to DVCC (an internal 1mA current source will pull the DDRV pin up to DVCC if left floating).", 5 EN (in) "Auxiliary LDO/Power Switch Enable Pin. A logic high on this pin from the controller will enable the auxiliary LDO output. When the LDO is disabled, the LDO output will float or be pulled to ground by the load. If left (See Datasheet)", 6 FB (in) "Auxiliary LDO Feedback Pin. When FB is connected to the LDO pin (Pin 17), the LDO output is regulated to 4.3V (typ). If the FB pin is left open or tied to ground, the regulator acts as a =<30W switch between VCC and LDO.", 7 DVCC (power) "Supply Voltage for Controller Side Digital I/O Pins. May be between 1.8V and 5.5V (typically 3V).", 8 ~{SS} (in) "Soft Start Enable Pin. A logic low will enable the charge pump inrush current limiting feature. A logic high will disable the soft start feature and allow VCC to be ramped as quickly as possible upon start-up and coming out (See Datasheet)", 9 M1 (in) "Mode Control Bit 1 (see Truth Table).", 10 M0 (in) "Mode Control Bit 0 (see Truth Table).", 11 GND (power) "Ground for Both the SIM and the Controller. Should be connected to the SIM GND contact as well as to the VIN/Controller GND. Proper grounding and supply bypassing is required to meet 10kV ESD specifications.", 12 GND (power) "Ground for Both the SIM and the Controller. Should be connected to the SIM GND contact as well as to the VIN/Controller GND. Proper grounding and supply bypassing is required to meet 10kV ESD specifications.", 13 C1- "Charge Pump Flying Capacitor Negative Input.", 14 C1+ "Charge Pump Flying Capacitor Positive Input.", 15 VIN (power) "Charge Pump Input Voltage Pin. Input voltage range is 2.7V to 10V. Connect a 10uF low ESR input bypass capacitor close to the VIN pin.", 16 VCC (power) "SIM Card VCC Output. This pin should be connected to the SIM VCC contact. The VCC output voltage is determined by the M0 and M1 pins (see Truth Table). VCC is discharged to GND during shutdown (M0, M1 = 0V). A 10uF low ESR (See Datasheet)", 17 LDO (power) "LDO Output Pin. This pin should be tied to the FB pin for 4.3V LDO operation. The 4.3V LDO output is usable only when VCC is 5V (or greater). It is not available when VCC = 3V. The LDO output may also be used as a =<30W (See Datasheet)", 18 I/O (io) "SIM Side I/O Pin. The pin is an open drain output with a nominal pull-up resistance of 10k and should be connected to the SIM I/O contact. The SIM card must sink up to 1mA max when driving the I/O pin low due to the internal (See Datasheet)", 19 RST (out) "Level Shifted Reset Output Pin. Should be connected to the SIM RST contact.", 20 CLK (out) "Level Shifted Clock Output Pin. Should be connected to the SIM CLK contact. Careful trace routing is recommended due to fast rise and fall edge speeds."

## LTC1556CGN#TR
designator U?
SIM Power Supply and Level Translator, 2.7 to 10 V Vin, 5 V Vout, 20-pin SOP (GN-20), 0 to 70 degC, Tape and Reel; Manufacturer: Linear Technology; PartNumber: LTC1556CGN#TR; Frequency(kHz): 650; Isupply(mA): 0.06; Max Iout(mA): 20; Vin Max(V): 10; Vin Min(V): 2.7; Voutput: 5V; PackageVersion: Rev. B, 03/2012; PackageReference: GN-20; PackageDescription: 20-Pin Plastic SSOP, Body 8.649 x 3.899 mm, Pitch 0.635 mm; Supplier 1: Digi-Key; Supplier Part Number 1: LTC1556CGN#TR-ND; Packing: Tape and Reel; RoHS: FALSE; Mounting Technology: Surface Mount; ComponentLink1Description: Manufacturer URL; ComponentLink1URL: http://www.linear.com/; ComponentLink2Description: Datasheet; ComponentLink2URL: http://cds.linear.com/docs/en/datasheet/15556f.pdf; ComponentLink3Description: Package Specification; ComponentLink3URL: http://cds.linear.com/docs/en/packaging/05081641_B_GN20.pdf
footprint LT-GN-20_N (SOP, 20-Leads, Body 8.7x4mm, Pitch 0.635mm, IPC Medium Density)
footprint LT-GN-20_L (SOP, 20-Leads, Body 8.7x4mm, Pitch 0.635mm, IPC High Density)
footprint LT-GN-20_M (SOP, 20-Leads, Body 8.7x4mm, Pitch 0.635mm, IPC Low Density)
pins: 1 CIN (in) "Clock Input Pin from Controller.", 2 RIN (in) "Reset Input Pin from Controller.", 3 DATA (io) "Controller Side Data Input/Output Pin. Can be used for single pin bidirectional data transfer between the controller and the SIM card as long as the controller data pin is open drain. The controller output must be able to (See Datasheet)", 4 DDRV (in) "Optional Data Input Pin for Sending Data to the SIM card. When not needed, the DDRV pin should be left floating or tied to DVCC (an internal 1mA current source will pull the DDRV pin up to DVCC if left floating).", 5 EN (in) "Auxiliary LDO/Power Switch Enable Pin. A logic high on this pin from the controller will enable the auxiliary LDO output. When the LDO is disabled, the LDO output will float or be pulled to ground by the load. If left (See Datasheet)", 6 FB (in) "Auxiliary LDO Feedback Pin. When FB is connected to the LDO pin (Pin 17), the LDO output is regulated to 4.3V (typ). If the FB pin is left open or tied to ground, the regulator acts as a =<30W switch between VCC and LDO.", 7 DVCC (power) "Supply Voltage for Controller Side Digital I/O Pins. May be between 1.8V and 5.5V (typically 3V).", 8 ~{SS} (in) "Soft Start Enable Pin. A logic low will enable the charge pump inrush current limiting feature. A logic high will disable the soft start feature and allow VCC to be ramped as quickly as possible upon start-up and coming out (See Datasheet)", 9 M1 (in) "Mode Control Bit 1 (see Truth Table).", 10 M0 (in) "Mode Control Bit 0 (see Truth Table).", 11 GND (power) "Ground for Both the SIM and the Controller. Should be connected to the SIM GND contact as well as to the VIN/Controller GND. Proper grounding and supply bypassing is required to meet 10kV ESD specifications.", 12 GND (power) "Ground for Both the SIM and the Controller. Should be connected to the SIM GND contact as well as to the VIN/Controller GND. Proper grounding and supply bypassing is required to meet 10kV ESD specifications.", 13 C1- "Charge Pump Flying Capacitor Negative Input.", 14 C1+ "Charge Pump Flying Capacitor Positive Input.", 15 VIN (power) "Charge Pump Input Voltage Pin. Input voltage range is 2.7V to 10V. Connect a 10uF low ESR input bypass capacitor close to the VIN pin.", 16 VCC (power) "SIM Card VCC Output. This pin should be connected to the SIM VCC contact. The VCC output voltage is determined by the M0 and M1 pins (see Truth Table). VCC is discharged to GND during shutdown (M0, M1 = 0V). A 10uF low ESR (See Datasheet)", 17 LDO (power) "LDO Output Pin. This pin should be tied to the FB pin for 4.3V LDO operation. The 4.3V LDO output is usable only when VCC is 5V (or greater). It is not available when VCC = 3V. The LDO output may also be used as a =<30W (See Datasheet)", 18 I/O (io) "SIM Side I/O Pin. The pin is an open drain output with a nominal pull-up resistance of 10k and should be connected to the SIM I/O contact. The SIM card must sink up to 1mA max when driving the I/O pin low due to the internal (See Datasheet)", 19 RST (out) "Level Shifted Reset Output Pin. Should be connected to the SIM RST contact.", 20 CLK (out) "Level Shifted Clock Output Pin. Should be connected to the SIM CLK contact. Careful trace routing is recommended due to fast rise and fall edge speeds."

## LTC1556CGN#TRPBF
designator U?
SIM Power Supply and Level Translator, 2.7 to 10 V Vin, 5 V Vout, 20-pin SOP (GN-20), 0 to 70 degC, Pb-Free, Tape and Reel; Manufacturer: Linear Technology; PartNumber: LTC1556CGN#TRPBF; Frequency(kHz): 650; Isupply(mA): 0.06; Max Iout(mA): 20; Vin Max(V): 10; Vin Min(V): 2.7; Voutput: 5V; PackageVersion: Rev. B, 03/2012; PackageReference: GN-20; PackageDescription: 20-Pin Plastic SSOP, Body 8.649 x 3.899 mm, Pitch 0.635 mm; Supplier 1: Digi-Key; Supplier Part Number 1: LTC1556CGN#TRPBF-ND; Packing: Tape and Reel; RoHS: TRUE; Mounting Technology: Surface Mount; ComponentLink1Description: Manufacturer URL; ComponentLink1URL: http://www.linear.com/; ComponentLink2Description: Datasheet; ComponentLink2URL: http://cds.linear.com/docs/en/datasheet/15556f.pdf; ComponentLink3Description: Package Specification; ComponentLink3URL: http://cds.linear.com/docs/en/packaging/05081641_B_GN20.pdf
footprint LT-GN-20_N (SOP, 20-Leads, Body 8.7x4mm, Pitch 0.635mm, IPC Medium Density)
footprint LT-GN-20_L (SOP, 20-Leads, Body 8.7x4mm, Pitch 0.635mm, IPC High Density)
footprint LT-GN-20_M (SOP, 20-Leads, Body 8.7x4mm, Pitch 0.635mm, IPC Low Density)
pins: 1 CIN (in) "Clock Input Pin from Controller.", 2 RIN (in) "Reset Input Pin from Controller.", 3 DATA (io) "Controller Side Data Input/Output Pin. Can be used for single pin bidirectional data transfer between the controller and the SIM card as long as the controller data pin is open drain. The controller output must be able to (See Datasheet)", 4 DDRV (in) "Optional Data Input Pin for Sending Data to the SIM card. When not needed, the DDRV pin should be left floating or tied to DVCC (an internal 1mA current source will pull the DDRV pin up to DVCC if left floating).", 5 EN (in) "Auxiliary LDO/Power Switch Enable Pin. A logic high on this pin from the controller will enable the auxiliary LDO output. When the LDO is disabled, the LDO output will float or be pulled to ground by the load. If left (See Datasheet)", 6 FB (in) "Auxiliary LDO Feedback Pin. When FB is connected to the LDO pin (Pin 17), the LDO output is regulated to 4.3V (typ). If the FB pin is left open or tied to ground, the regulator acts as a =<30W switch between VCC and LDO.", 7 DVCC (power) "Supply Voltage for Controller Side Digital I/O Pins. May be between 1.8V and 5.5V (typically 3V).", 8 ~{SS} (in) "Soft Start Enable Pin. A logic low will enable the charge pump inrush current limiting feature. A logic high will disable the soft start feature and allow VCC to be ramped as quickly as possible upon start-up and coming out (See Datasheet)", 9 M1 (in) "Mode Control Bit 1 (see Truth Table).", 10 M0 (in) "Mode Control Bit 0 (see Truth Table).", 11 GND (power) "Ground for Both the SIM and the Controller. Should be connected to the SIM GND contact as well as to the VIN/Controller GND. Proper grounding and supply bypassing is required to meet 10kV ESD specifications.", 12 GND (power) "Ground for Both the SIM and the Controller. Should be connected to the SIM GND contact as well as to the VIN/Controller GND. Proper grounding and supply bypassing is required to meet 10kV ESD specifications.", 13 C1- "Charge Pump Flying Capacitor Negative Input.", 14 C1+ "Charge Pump Flying Capacitor Positive Input.", 15 VIN (power) "Charge Pump Input Voltage Pin. Input voltage range is 2.7V to 10V. Connect a 10uF low ESR input bypass capacitor close to the VIN pin.", 16 VCC (power) "SIM Card VCC Output. This pin should be connected to the SIM VCC contact. The VCC output voltage is determined by the M0 and M1 pins (see Truth Table). VCC is discharged to GND during shutdown (M0, M1 = 0V). A 10uF low ESR (See Datasheet)", 17 LDO (power) "LDO Output Pin. This pin should be tied to the FB pin for 4.3V LDO operation. The 4.3V LDO output is usable only when VCC is 5V (or greater). It is not available when VCC = 3V. The LDO output may also be used as a =<30W (See Datasheet)", 18 I/O (io) "SIM Side I/O Pin. The pin is an open drain output with a nominal pull-up resistance of 10k and should be connected to the SIM I/O contact. The SIM card must sink up to 1mA max when driving the I/O pin low due to the internal (See Datasheet)", 19 RST (out) "Level Shifted Reset Output Pin. Should be connected to the SIM RST contact.", 20 CLK (out) "Level Shifted Clock Output Pin. Should be connected to the SIM CLK contact. Careful trace routing is recommended due to fast rise and fall edge speeds."